# EAGLE library part 693010010601 (library Input Output Connectors)
CONN SIM CARD PUSH-PULL R/A SMD Manufacturer's datasheet <https://katalog.we-online.de/em/datasheet/693010010601.pdf>
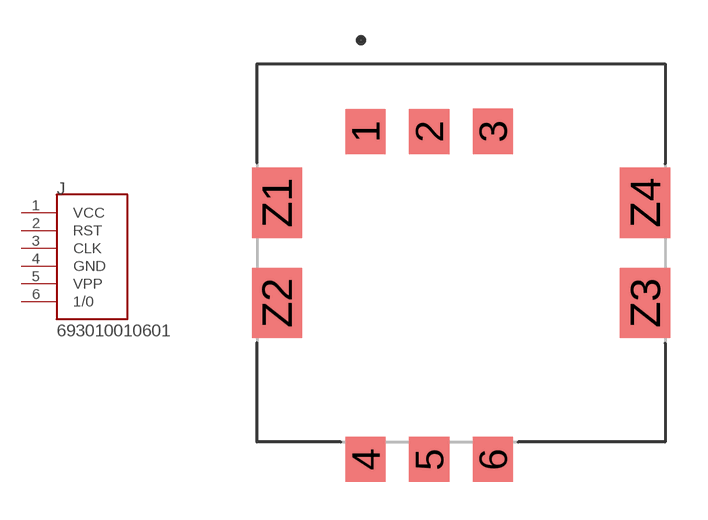
[diagram p1: symbol with the pads of 693010010601; footprint 693010010601]

Designator prefix J

## 693010010601 (CREATED_BY: PCBLayout.com; MANUFACTURER: Wurth Electronics Inc.; MPN: 693010010601)  [693010010601]
1  VCC  pwr
2  RST  in
3  CLK  in
4  GND  pwr
5  VPP  pwr
6  1/0

## Footprint 693010010601 (pad centres in mm)
smd 1.6 x 1.8: 1 -3.81,4.85; 2 -1.27,4.85; 3 1.27,4.85; 4 -3.81,-8.25; 5 -1.27,-8.25; 6 1.27,-8.25
smd 2 x 2.8: Z1 -7.35,2; Z2 -7.35,-2; Z3 7.35,-2; Z4 7.35,2